# EAGLE library part A3255 (library Avalon)
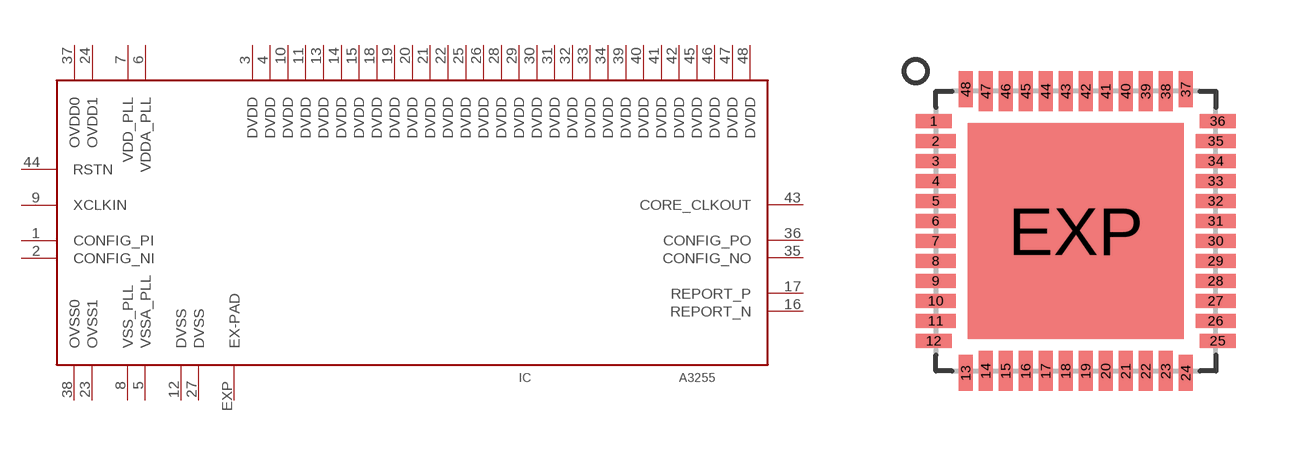
[diagram p0: symbol with the pads of QFN48; footprint QFN48]

Designator prefix IC

## A3255  [QFN48]
1  CONFIG_PI  pas
2  CONFIG_NI  pas
3  DVDD  pas
4  DVDD  pas
5  VSSA_PLL  pas
6  VDDA_PLL  pas
7  VDD_PLL  pas
8  VSS_PLL  pas
9  XCLKIN  pas
10  DVDD  pas
11  DVDD  pas
12  DVSS  pas
13  DVDD  pas
14  DVDD  pas
15  DVDD  pas
16  REPORT_N  pas
17  REPORT_P  pas
18  DVDD  pas
19  DVDD  pas
20  DVDD  pas
21  DVDD  pas
22  DVDD  pas
23  OVSS1  pas
24  OVDD1  pas
25  DVDD  pas
26  DVDD  pas
27  DVSS  pas
28  DVDD  pas
29  DVDD  pas
30  DVDD  pas
31  DVDD  pas
32  DVDD  pas
33  DVDD  pas
34  DVDD  pas
35  CONFIG_NO  pas
36  CONFIG_PO  pas
37  OVDD0  pas
38  OVSS0  pas
39  DVDD  pas
40  DVDD  pas
41  DVDD  pas
42  DVDD  pas
43  CORE_CLKOUT  pas
44  RSTN  pas
45  DVDD  pas
46  DVDD  pas
47  DVDD  pas
48  DVDD  pas
EXP  EX-PAD  pas

## Footprint QFN48 (pad centres in mm)
smd 0.9 x 0.35: 1 -3.55,2.75; 12 -3.55,-2.75; 25 3.55,-2.75; 36 3.55,2.75
smd 1 x 0.35: 2 -3.5,2.25; 3 -3.5,1.75; 4 -3.5,1.25; 5 -3.5,0.75; 6 -3.5,0.25; 7 -3.5,-0.25; 8 -3.5,-0.75; 9 -3.5,-1.25; 10 -3.5,-1.75; 11 -3.5,-2.25; 26 3.5,-2.25; 27 3.5,-1.75; 28 3.5,-1.25; 29 3.5,-0.75; 30 3.5,-0.25; 31 3.5,0.25; 32 3.5,0.75; 33 3.5,1.25; 34 3.5,1.75; 35 3.5,2.25
smd 0.35 x 0.9: 13 -2.75,-3.55; 24 2.75,-3.55; 37 2.75,3.55; 48 -2.75,3.55
smd 0.35 x 1: 14 -2.25,-3.5; 15 -1.75,-3.5; 16 -1.25,-3.5; 17 -0.75,-3.5; 18 -0.25,-3.5; 19 0.25,-3.5; 20 0.75,-3.5; 21 1.25,-3.5; 22 1.75,-3.5; 23 2.25,-3.5; 38 2.25,3.5; 39 1.75,3.5; 40 1.25,3.5; 41 0.75,3.5; 42 0.25,3.5; 43 -0.25,3.5; 44 -0.75,3.5; 45 -1.25,3.5; 46 -1.75,3.5; 47 -2.25,3.5
smd 5.4 x 5.4: EXP 0,0